# Altium schematic symbol library SCH - DIODES - TVS - TI TPD6E001RSER.Schlib: 1 symbol
Pins are listed as number, name and electrical type; pins without a type are passive.

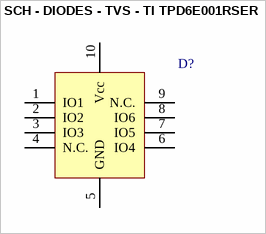
[diagram p0: symbol SCH - DIODES - TVS - TI TPD6E001RSER]

## SCH - DIODES - TVS - TI TPD6E001RSER
designator D?
footprint TPD6E001 (6ch 15kV ESD Protection Array)
pins: 1 IO1, 2 IO2, 3 IO3, 4 N.C., 5 GND, 6 IO4, 7 IO5, 8 IO6, 9 N.C., 10 Vcc